# Altium schematic symbol library SCH - FUSE - FUSE.SCHLIB: 1 symbol
Pins are listed as number, name and electrical type; pins without a type are passive.

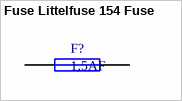
[diagram p0: symbol Fuse Littelfuse 154 Fuse]

## Fuse Littelfuse 154 Fuse
designator F?, comment 1,5AF
SMF OMNI-BLOK Sicherung, Typ 154
pins: 1, 2